# EAGLE library part LTC3265 (library Bauteile)
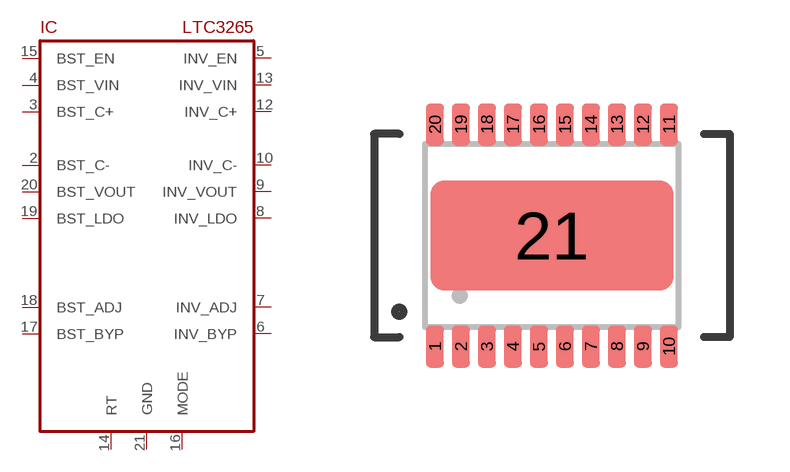
[diagram p156: symbol with the pads of TSSOP20_POWERPAD; footprint TSSOP20_POWERPAD]

Designator prefix IC

## LTC3265  [TSSOP20_POWERPAD]
2  BST_C-
3  BST_C+
4  BST_VIN
5  INV_EN
6  INV_BYP
7  INV_ADJ
8  INV_LDO
9  INV_VOUT
10  INV_C-
12  INV_C+
13  INV_VIN
14  RT
15  BST_EN
16  MODE
17  BST_BYP
18  BST_ADJ
19  BST_LDO
20  BST_VOUT
21  GND

## Footprint TSSOP20_POWERPAD (pad centres in mm)
smd 0.45 x 1.05: 1 -2.925,-2.775; 2 -2.275,-2.775; 3 -1.625,-2.775; 4 -0.975,-2.775; 5 -0.325,-2.775; 6 0.325,-2.775; 7 0.975,-2.775; 8 1.625,-2.775; 9 2.275,-2.775; 10 2.925,-2.775; 11 2.925,2.775; 12 2.275,2.775; 13 1.625,2.775; 14 0.975,2.775; 15 0.325,2.775; 16 -0.325,2.775; 17 -0.975,2.775; 18 -1.625,2.775; 19 -2.275,2.775; 20 -2.925,2.775
smd 6.07 x 2.74: 21 0,0